# Altium schematic symbol library Packaging.SchLib: 8 symbols
Pins are listed as number, name and electrical type; pins without a type are passive.

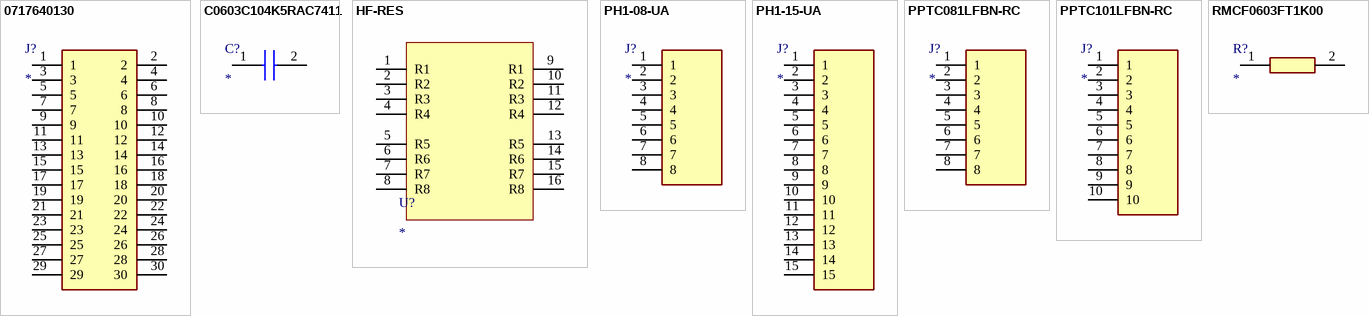
[diagram p0: symbols 0717640130 to RMCF0603FT1K00]

## 0717640130
designator J?
Connector; Manufacturer_Name: Molex; Manufacturer_Part_Number: 0717640130; Datasheet Link: https://www.molex.com/pdm_docs/sd/717640130_sd.pdf; Height: 5.33mm; Mouser Part Number: N/A; Mouser Price/Stock: https://www.mouser.com/Search/Refine.aspx?Keyword=N%2FA; Arrow Part Number: 0717640130; Arrow Price/Stock: https://www.arrow.com/en/products/0717640130/molex
footprint HDRRA30W64P254_2X15_3810X229X533P
pins: 1, 2, 3, 4, 5, 6, 7, 8, 9, 10, 11, 12, 13, 14, 15, 16, 17, 18, 19, 20, 21, 22, 23, 24, 25, 26, 27, 28, 29, 30

## C0603C104K5RAC7411
designator C?
Capacitor; Manufacturer_Name: KEMET; Manufacturer_Part_Number: C0603C104K5RAC7411; Description: SMD Comm X7R; Datasheet Link: https://content.kemet.com/datasheets/KEM_C1002_X7R_SMD.pdf; Height: 0.87mm; Mouser Part Number: 80-C0603C104K5R7411; Mouser Price/Stock: https://www.mouser.co.uk/ProductDetail/KEMET/C0603C104K5RAC7411?qs=JxH5GSBHSCRTO9iUpWbJFg%3D%3D; Arrow Part Number: C0603C104K5RAC7411; Arrow Price/Stock: https://www.arrow.com/en/products/c0603c104k5rac7411/kemet-corporation?region=nac
footprint C0603
pins: 1, 2

## HF-RES
designator U?
Resistor chip for packaging test
footprint HF-COB (Chip on board footprint)
pins: 1 R1, 2 R2, 3 R3, 4 R4, 5 R5, 6 R6, 7 R7, 8 R8, 9 R1, 10 R2, 11 R3, 12 R4, 13 R5, 14 R6, 15 R7, 16 R8

## PH1-08-UA
designator J?
Connector; Manufacturer_Name: Adam Tech; Manufacturer_Part_Number: PH1-08-UA; Datasheet Link: https://app.adam-tech.com/products/download/data_sheet/201605/ph1-xx-ua-data-sheet.pdf; Height: 8.881mm; Mouser Part Number: 737-PH1-08-UA; Mouser Price/Stock: https://www.mouser.co.uk/ProductDetail/Adam-Tech/PH1-08-UA?qs=HoCaDK9Nz5fwefM2nMHXHA%3D%3D; Arrow Part Number: PH1-08-UA; Arrow Price/Stock: https://www.arrow.com/en/products/ph1-08-ua/adam-tech?utm_currency=USD&region=nac
footprint HDRV8W64P0X254_1X8_2032X250X888P
pins: 1, 2, 3, 4, 5, 6, 7, 8

## PH1-15-UA
designator J?
Connector; Manufacturer_Name: Adam Tech; Manufacturer_Part_Number: PH1-15-UA; Datasheet Link: https://app.adam-tech.com/products/download/data_sheet/201605/ph1-xx-ua-data-sheet.pdf; Height: 8.865mm; Mouser Part Number: 737-PH1-15-UA; Mouser Price/Stock: https://www.mouser.co.uk/ProductDetail/Adam-Tech/PH1-15-UA?qs=HoCaDK9Nz5dUS47ZXPBTBg%3D%3D; Arrow Part Number: PH1-15-UA; Arrow Price/Stock: https://www.arrow.com/en/products/ph1-15-ua/adam-tech?region=nac
footprint HDRV15W64P0X254_1X15_3810X249X886P
pins: 1, 2, 3, 4, 5, 6, 7, 8, 9, 10, 11, 12, 13, 14, 15

## PPTC081LFBN-RC
designator J?
Connector; Manufacturer_Name: Sullins; Manufacturer_Part_Number: PPTC081LFBN-RC; Datasheet Link: http://sullinscorp.com/catalogs/101_PAGE114-115_.100_FEMALE_HDR.pdf; Height: 8.5mm
footprint RHDR8W80P0X254_1X8_2082X254X850P
pins: 1, 2, 3, 4, 5, 6, 7, 8

## PPTC101LFBN-RC
designator J?
Connector; Manufacturer_Name: Sullins; Manufacturer_Part_Number: PPTC101LFBN-RC; Description: Header female; Datasheet Link: http://www.sullinscorp.com/drawings/78_P(N)PxCxxxLFBN-RC,_10492-H.pdf; Height: 8.5mm
footprint RHDR10W80P0X254_1X10_2590X254X850P
pins: 1, 2, 3, 4, 5, 6, 7, 8, 9, 10

## RMCF0603FT1K00
designator R?
Resistor; Manufacturer_Name: Stackpole Electronics; Manufacturer_Part_Number: RMCF0603FT1K00; Description: RES; Datasheet Link: https://www.seielect.com/Catalog/SEI-RMCF_RMCP.pdf; Height: 0.55mm; Mouser Part Number: 708-RMCF0603FT1K00; Mouser Price/Stock: https://www.mouser.co.uk/ProductDetail/SEI-Stackpole/RMCF0603FT1K00?qs=FESYatJ8odI%252BYiPlprc1Pg%3D%3D; Arrow Part Number: RMCF0603FT1K00; Arrow Price/Stock: https://www.arrow.com/en/products/rmcf0603ft1k00/stackpole-electronics?utm_currency=USD&region=nac
footprint RESC1608X55N
pins: 1, 2